# Altium footprint library LTC1861IMS#PBF.PcbLib: 1 footprints
Each footprint in its own frame and in the unit in brackets; x right, y up, seen from the top. Pads: shape width x height; smd on the part's side, far side on the other; paste and mask are expansions set on the pad; w line width, h text height; cw(c..) or ccw(c..) is an arc to the next point about the centre after c.
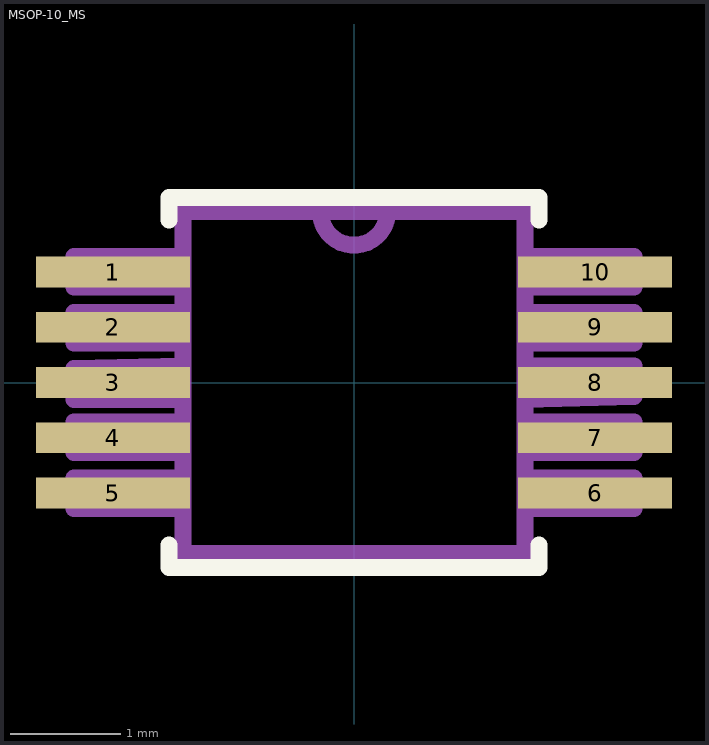
[diagram p0: the footprint, top view; thin cyan lines are the x and y axes]

## MSOP-10_MS [mil]
pads (10):
  rect 55x11 smd: 1(-86,39.4) 2(-86,19.7) 3(-86,0) 4(-86,-19.7) 5(-86,-39.4) 6(86,-39.4) 7(86,-19.7) 8(86,0) 9(86,19.7) 10(86,39.4)
Top Overlay:
  lines w6: -66,-58 -66,-66 66,-66 66,-58 ; -66,58 -66,66 66,66 66,58
Mechanical 13:
  lines w6: -12,61 ccw(c0,61) 12,61 ; -12,61 -61,61 -61,-61 61,-61 61,61 12,61 ; -12,61 12,61 ; -100,-45 -61,-45 -61,-34 -100,-34 -100,-45 ; -100,-25 -61,-25 -61,-14 -100,-14 -100,-25 ; -100,-6 -61,-6 -61,6 -100,5 -100,-6 ; -100,14 -61,14 -61,25 -100,25 -100,14 ; -100,34 -61,34 -61,45 -100,45 -100,34 ; 61,-45 100,-45 100,-34 61,-34 61,-45 ; 61,-25 100,-25 100,-14 61,-14 61,-25 ; 61,-6 100,-5 100,6 61,6 61,-6 ; 61,14 100,14 100,25 61,25 61,14 ; 61,34 100,34 100,45 61,45 61,34